# EAGLE library part NVMTS1D2N08H (library REV BLDC)
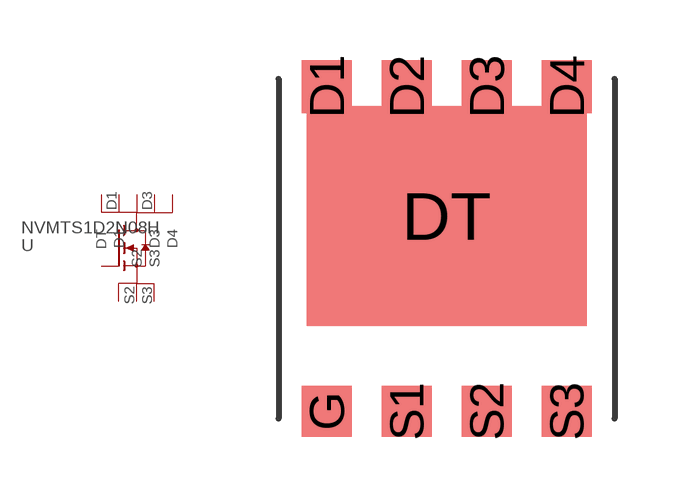
[diagram p1: symbol with the pads of PQFN88; footprint PQFN88]

Designator prefix -

## NVMTS1D2N08H  [PQFN88]
D1  D1  pas
D2  D2  pas
D3  D3  pas
D4  D4  pas
DT  DT  pas
G  G  pas
S1  S1  pas
S2  S2  pas
S3  S3  pas

## Footprint PQFN88 (pad centres in mm)
smd 1.25 x 1.33: D1 -3,4.055; D2 -1,4.055; D3 1,4.055; D4 3,4.055
smd 7 x 5.5: DT 0,0.82
smd 1.25 x 1.28: G -3,-4.07; S1 -1,-4.07; S2 1,-4.07; S3 3,-4.07